# EAGLE library part MAX9921 (library maxim_r)
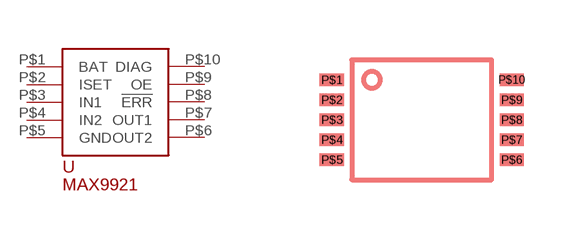
[diagram p0: symbol with the pads of UMAX-10; footprint UMAX-10]

Designator prefix -

## MAX9921  [UMAX-10]
P$1  BAT
P$2  ISET
P$3  IN1
P$4  IN2
P$5  GND
P$6  OUT2
P$7  OUT1
P$8  !ERR!
P$9  OE
P$10  DIAG

## Footprint UMAX-10 (pad centres in mm)
smd 0.61 x 0.305: P$1 -1.27,0; P$2 -1.27,-0.5; P$3 -1.27,-1; P$4 -1.27,-1.5; P$5 -1.27,-2; P$6 3.23,-2; P$7 3.23,-1.5; P$8 3.23,-1; P$9 3.23,-0.5; P$10 3.23,0